# Altium footprint library ADT1-6T.PcbLib: 1 footprints
Each footprint in its own frame and in the unit in brackets; x right, y up, seen from the top. Pads: shape width x height; smd on the part's side, far side on the other; paste and mask are expansions set on the pad; w line width, h text height; cw(c..) or ccw(c..) is an arc to the next point about the centre after c.
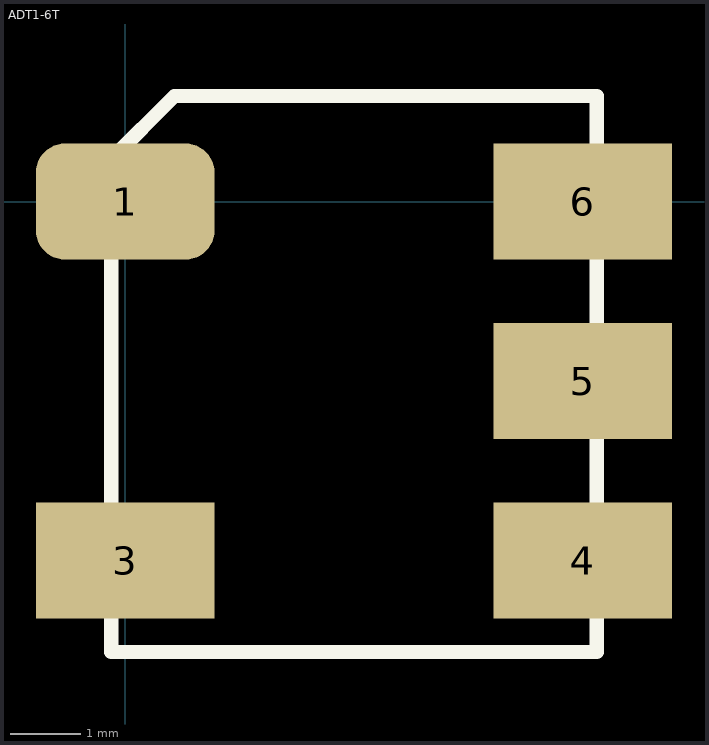
[diagram p0: the footprint, top view; thin cyan lines are the x and y axes]

## ADT1-6T [mm]
pads (5):
  rrect50% 2.54x1.651 smd: 1(0,0)
  rect 2.54x1.651 smd: 3(0,-5.1) 4(6.5,-5.1) 5(6.5,-2.55) 6(6.5,0)
Top Overlay:
  lines w0.203: -0.2,-6.4 -0.2,0.6 0.7,1.5 6.7,1.5 6.7,-6.4 -0.2,-6.4
3D body "ADT1-12.step": height 2.85, standoff 0, extent -0.155,-6.435 6.755,1.435